# EAGLE library part ISO1050 (library Labor)
Isolated CAN transceiver FEATURES 5000-VRMS Isolation (DW Package) 2500-VRMS Isolation (DUB Package) Failsafe Outputs Low Loop Delay: 150 ns Typical 50 kV/ms Typical Transient Immunity Meets or Exceeds ISO 11898 requirements Bus-Fault Protection of ?27 V to 40 V Dominant Time-Out Function IEC 60747-5-2 (VDE 0884, Rev. 2) & IEC 61010-1 Approved UL 1577, IEC 60950-1 and CSA Approvals Pending 3.3-V Inputs are 5-V Tolerant
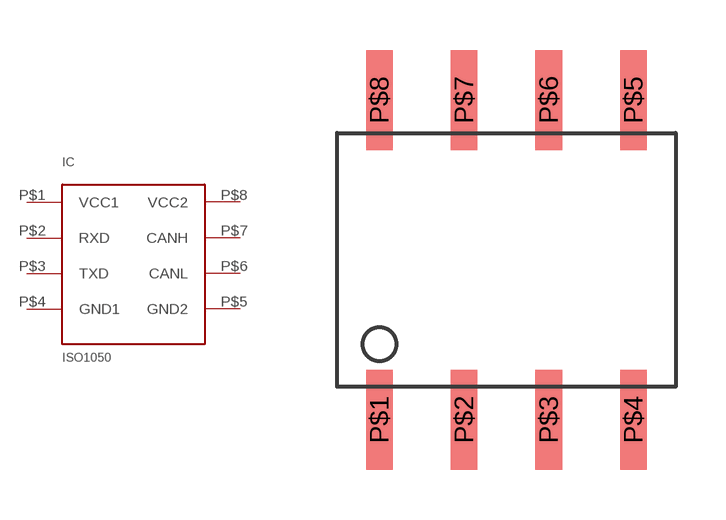
[diagram p1: symbol with the pads of DUB; footprint DUB]

Designator prefix IC

## ISO1050  [DUB]
P$1  VCC1  pwr
P$2  RXD  out
P$3  TXD  in
P$4  GND1  sup
P$5  GND2  sup
P$6  CANL
P$7  CANH
P$8  VCC2  pwr

## Footprint DUB (pad centres in mm)
DUB (R-PDSO-G8) Plastic Small Outline
smd 0.8 x 3: P$1 -3.81,-4.8; P$2 -1.27,-4.8; P$3 1.27,-4.8; P$4 3.81,-4.8; P$5 3.81,4.8; P$6 1.27,4.8; P$7 -1.27,4.8; P$8 -3.81,4.8